# Altium schematic symbol library ImegurasLib.SchLib: 8 symbols
Pins are listed as number, name and electrical type; pins without a type are passive.

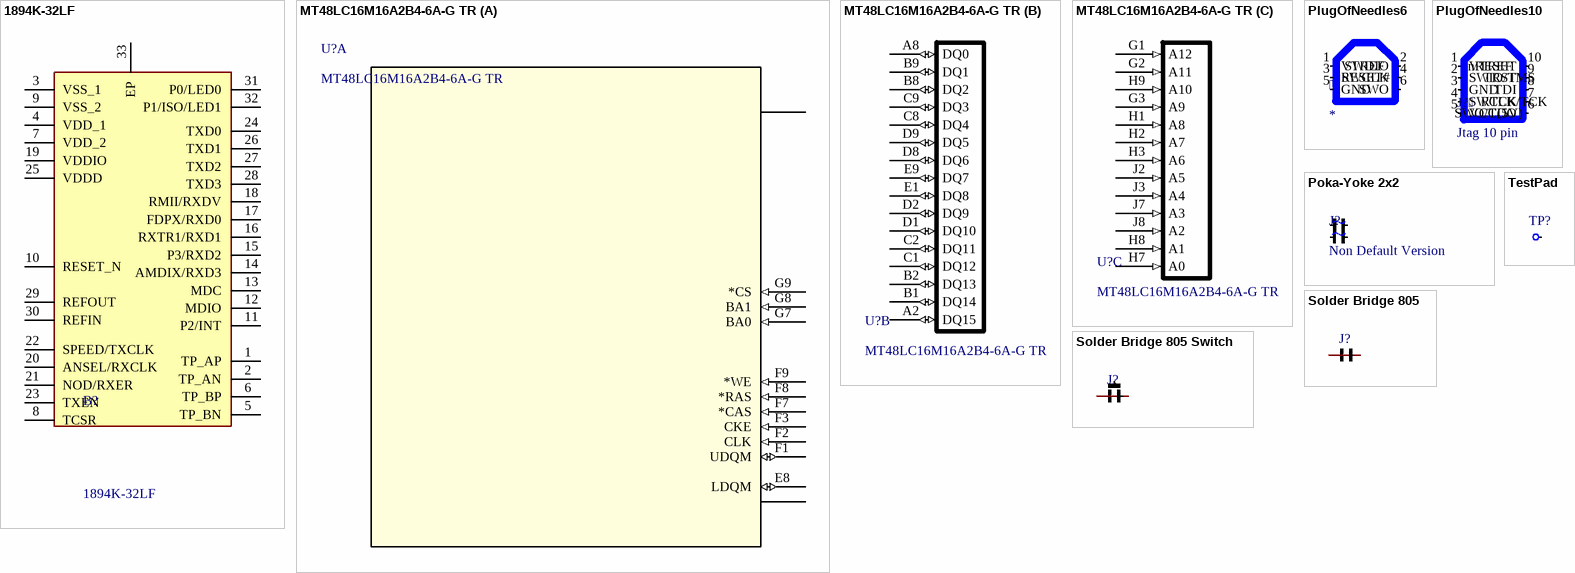
[diagram p0: symbols 1894K-32LF to TestPad]

## 1894K-32LF
designator B?
The IDT1894-32 is a low-power, physical-layer device (PHY) that supports the ISO/IEC 10Base-T and 100Base-TX Carrier-Sense Multiple Access/Collision Detection (CSMA/CD) Ethernet standards, ISO/IEC 8802-3. The IDT1894-32 is intended for MII, Node applications that require the Auto-MDIX feature that automatically corrects crossover errors in plant wiring. The IDT1894-32 incorporates Digital-Signal Processing (DSP) control in its Physical-Medium Dependent (PMD) sub layer. As a result, it can transmit and recei; Manufacturer_Name: Renesas Electronics; Geometry.Height: 1mm; Manufacturer_Part_Number: 1894K-32LF; Mouser Part Number: 972-1894K-32LF; Mouser Price/Stock: https://www.mouser.co.uk/ProductDetail/Renesas-IDT/1894K-32LF?qs=JcGQCygHkIbsoRijcJxryA%3D%3D; Arrow Part Number: *; Arrow Price/Stock: *; Datasheet Link: https://www.idt.com/document/dst/1894-32-datasheet
footprint 1894K-32LF
pins: 1 TP_AP, 2 TP_AN, 3 VSS_1, 4 VDD_1, 5 TP_BN, 6 TP_BP, 7 VDD_2, 8 TCSR, 9 VSS_2, 10 RESET_N, 11 P2/INT, 12 MDIO, 13 MDC, 14 AMDIX/RXD3, 15 P3/RXD2, 16 RXTR1/RXD1, 17 FDPX/RXD0, 18 RMII/RXDV, 19 VDDIO, 20 ANSEL/RXCLK, 21 NOD/RXER, 22 SPEED/TXCLK, 23 TXEN, 24 TXD0, 25 VDDD, 26 TXD1, 27 TXD2, 28 TXD3, 29 REFOUT, 30 REFIN, 31 P0/LED0, 32 P1/ISO/LED1, 33 EP

## MT48LC16M16A2B4-6A-G TR
designator U?
16 bit memory sdram, 16M 16 banks, 256 Megs Total, 167 MHz max
footprint VFBGA54_8X8_MRN
part A pins: ?1, ?2, E8 LDQM (io), F1 UDQM (io), F2 CLK (in), F3 CKE (in), F7 *CAS (in), F8 *RAS (in), F9 *WE (in), G7 BA0 (in), G8 BA1 (in), G9 *CS (in)
part B pins: A2 DQ15 (io), A8 DQ0 (io), B1 DQ14 (io), B2 DQ13 (io), B8 DQ2 (io), B9 DQ1 (io), C1 DQ12 (io), C2 DQ11 (io), C8 DQ4 (io), C9 DQ3 (io), D1 DQ10 (io), D2 DQ9 (io), D8 DQ6 (io), D9 DQ5 (io), E1 DQ8 (io), E9 DQ7 (io)
part C pins: G1 A12 (in), G2 A11 (in), G3 A9 (in), H1 A8 (in), H2 A7 (in), H3 A6 (in), H7 A0 (in), H8 A1 (in), H9 A10 (in), J2 A5 (in), J3 A4 (in), J7 A3 (in), J8 A2 (in)

## PlugOfNeedles6
designator 
footprint Pluck-Of-Needles 6 POS (A proprietary solderless JTAG disposition)
footprint Pluck-Of-Needles 6 POS naked (A proprietary solderless JTAG disposition)
pins: 1 VTREF, 2 SWDIO, 3 RESET#, 4 SWCLK, 5 GND, 6 SWO

## PlugOfNeedles10
designator J?, comment Jtag 10 pin
A short footprint for jtag
footprint Pluck-Of-Needles 10 POS (A proprietary solderless JTAG disposition)
footprint Pluck-Of-Needles 10 POS naked (A proprietary solderless JTAG disposition)
pins: 1 VTREF, 2 SWIO/TMS, 3 GND, 4 SWCLK/TCK, 5 VCC(5V), 6 SWO/TDO, 7 RTCK, 8 TDI, 9 TRST, 10 nRESET

## Poka-Yoke 2x2
designator J?, comment Non Default Version  (no BOM)
An solderbridge variation meant to permit crossover to straightrough variations easily
footprint PokaYoke Blank (An solderbridge variation meant to permit crossover to straightrough variations easily)
pins: RX_0, RX_1, TX_0, TX_1

## Solder Bridge 805
designator J?, comment A solder Bridge  (value not drawn)
footprint Solder Bridge 805 (Closed Solder Bridge)
pins: P0, P1

## Solder Bridge 805 Switch
designator J?, comment A solder Bridge  (value not drawn)
footprint Solder Bridge 805 switch (Closed Solder Bridge)
pins: P0, P1, P2

## TestPad
designator TP?
footprint Test Pad Small (A small test pad for HF applications)
footprint Test Pad Miniscule (A small test pad for HF applications)
footprint Test Pad Extra Small (A small test pad for HF applications)
pins: P2